# Altium integrated library 2EDGRC-5.0.IntLib: 2 symbols
Pins are listed as number, name and electrical type; pins without a type are passive.

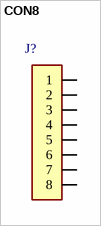
[diagram p0: symbol CON8]

## CON8
designator J?, comment 2EDGRC-5.0-08P-14-00AH  (value not drawn)
ID: 2EDGRC-5.0-08P-14-00AH; PDF: http://www.tme.eu/pl/Document/43429d9cded250ad5fda201e97eca6a3/2EDGRC.pdf; PRICE: 1,71 z³; BUY_LINK: http://www.tme.eu/pl/details/2edgrc-5.0-08p14/listwy-zaciskowe-do-druku/degson-electronics/2edgrc-50-08p-14-00ah/#
footprint 2EDGRC-5.0-08P-14-00AH
pins: 1, 2, 3, 4, 5, 6, 7, 8


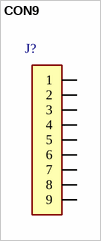
[diagram p1: symbol CON9]

## CON9
designator J?, comment 2EDGRC-5.0-09P-14-00AH  (value not drawn)
ID: 2EDGRC-5.0-09P-14-00AH; PDF: http://www.tme.eu/pl/Document/43429d9cded250ad5fda201e97eca6a3/2EDGRC.pdf; PRICE: 1,91 z³; BUY_LINK: http://www.tme.eu/pl/details/2edgrc-5.0-09p14/listwy-zaciskowe-do-druku/degson-electronics/2edgrc-50-09p-14-00ah/#
footprint 2EDGRC-5.0-09P-14-00AH
pins: 1, 2, 3, 4, 5, 6, 7, 8, 9